# Altium footprint library 14HDR.PcbLib: 1 footprints
Each footprint in its own frame and in the unit in brackets; x right, y up, seen from the top. Pads: shape width x height; smd on the part's side, far side on the other; paste and mask are expansions set on the pad; w line width, h text height; cw(c..) or ccw(c..) is an arc to the next point about the centre after c.
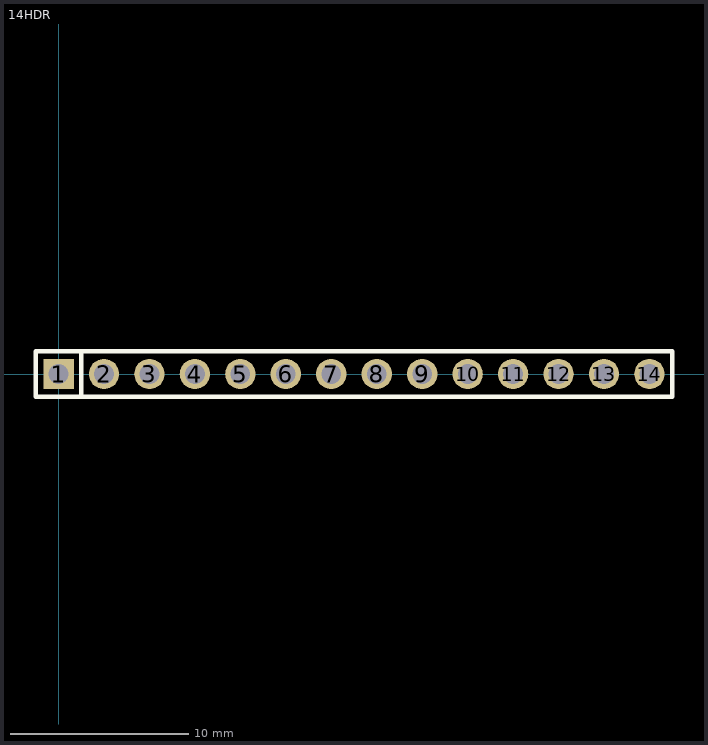
[diagram p0: the footprint, top view; thin cyan lines are the x and y axes]

## 14HDR [mm]
height 9
pads (14):
  rect 1.7x1.7 hole 1.1: 1(0,0)
  round 1.7 hole 1.1: 2(2.54,0) 3(5.08,0) 4(7.62,0) 5(10.16,0) 6(12.7,0) 7(15.24,0) 8(17.78,0) 9(20.32,0) 10(22.86,0) 11(25.4,0) 12(27.94,0) 13(30.48,0) 14(33.02,0)
Top Overlay:
  lines w0.254: 1.27,-1.27 -1.27,-1.27 -1.27,1.27 1.27,1.27 ; 1.27,-1.27 1.27,1.27 ; 1.27,-1.27 3.81,-1.27 6.35,-1.27 8.89,-1.27 11.43,-1.27 13.97,-1.27 16.51,-1.27 19.05,-1.27 21.59,-1.27 24.13,-1.27 26.67,-1.27 29.21,-1.27 31.75,-1.27 34.29,-1.27 34.29,1.27 31.75,1.27 29.21,1.27 26.67,1.27 24.13,1.27 21.59,1.27 19.05,1.27 16.51,1.27 13.97,1.27 11.43,1.27 8.89,1.27 6.35,1.27 3.81,1.27 1.27,1.27
3D body: height 8.54, standoff -3, extent -1.27,-1.25 1.27,1.25
3D body: height 8.54, standoff -3, extent 1.27,-1.25 3.81,1.25
3D body: height 8.54, standoff -3, extent 3.81,-1.25 6.35,1.25
3D body: height 8.54, standoff -3, extent 6.35,-1.25 8.89,1.25
3D body: height 8.54, standoff -3, extent 8.89,-1.25 11.43,1.25
3D body: height 8.54, standoff -3, extent 11.43,-1.25 13.97,1.25
3D body: height 8.54, standoff -3, extent 13.97,-1.25 16.51,1.25
3D body: height 8.54, standoff -3, extent 16.51,-1.25 19.05,1.25
3D body: height 8.54, standoff -3, extent 19.05,-1.25 21.59,1.25
3D body: height 8.54, standoff -3, extent 21.59,-1.25 24.13,1.25
3D body: height 8.54, standoff -3, extent 24.13,-1.25 26.67,1.25
3D body: height 8.54, standoff -3, extent 26.67,-1.25 29.21,1.25
3D body: height 8.54, standoff -3, extent 29.21,-1.25 31.75,1.25
3D body: height 8.54, standoff -3, extent 31.75,-1.25 34.29,1.25